# EAGLE library part TIL311 (library 68komputer)
Hexadecimal Display with Logic Datasheet <http://www.mouser.com/ds/2/588/til311-e4-519224.pdf>
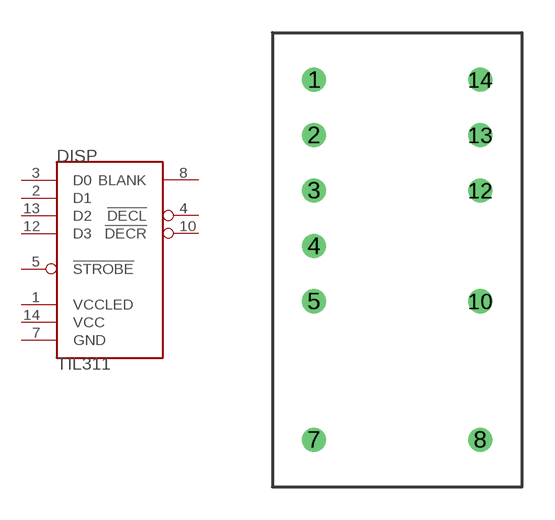
[diagram p18: symbol with the pads of TIL311; footprint TIL311]

Designator prefix DISP

## TIL311  [TIL311]
1  VCCLED  pwr
2  D1  in
3  D0  in
4  !DECL  in
5  !STROBE  in
7  GND  pwr
8  BLANK  in
10  !DECR  in
12  D3  in
13  D2  in
14  VCC  pwr

## Footprint TIL311 (pad centres in mm)
drill 0.6: 1 0,0; 2 0,-2.54; 3 0,-5.08; 4 0,-7.62; 5 0,-10.16; 7 0,-16.51; 8 7.62,-16.51; 10 7.62,-10.16; 12 7.62,-5.08; 13 7.62,-2.54; 14 7.62,0